# EAGLE library part TPS54302DDCT (library TPS54302DDCT)
4.5-V to 28-V Input, 3-A Output, EMI Friendly Synchronous Step-Down Converter Source: Datasheet <https://componentsearchengine.com/Datasheets/2/TPS54302DDCT.pdf>
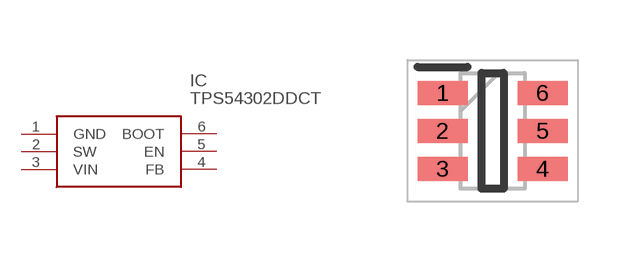
[diagram p0: symbol with the pads of SOT95P280X110-6N; footprint SOT95P280X110-6N]

Designator prefix IC

## TPS54302DDCT (Description: 4.5-V to 28-V Input, 3-A Output, EMI Friendly Synchronous Step-Down Converter; Height: 1.1mm; Manufacturer_Name: Texas Instruments; Manufacturer_Part_Number: TPS54302DDCT; Mouser_Part_Number: 595-TPS54302DDCT; Mouser_Price-Stock: https://www.mouser.co.uk/ProductDetail/Texas-Instruments/TPS54302DDCT?qs=zEmsApcVOkXGTx6CMk2KtQ%3D%3D)  [SOT95P280X110-6N]
1  GND
2  SW
3  VIN
4  FB
5  EN
6  BOOT

## Footprint SOT95P280X110-6N (pad centres in mm)
DDC (R-PDSO-G6)
smd 1.25 x 0.6: 1 -1.25,0.95; 2 -1.25,0; 3 -1.25,-0.95; 4 1.25,-0.95; 5 1.25,0; 6 1.25,0.95